# Altium schematic symbol library pcbLib.SchLib: 1 symbol
Pins are listed as number, name and electrical type; pins without a type are passive.

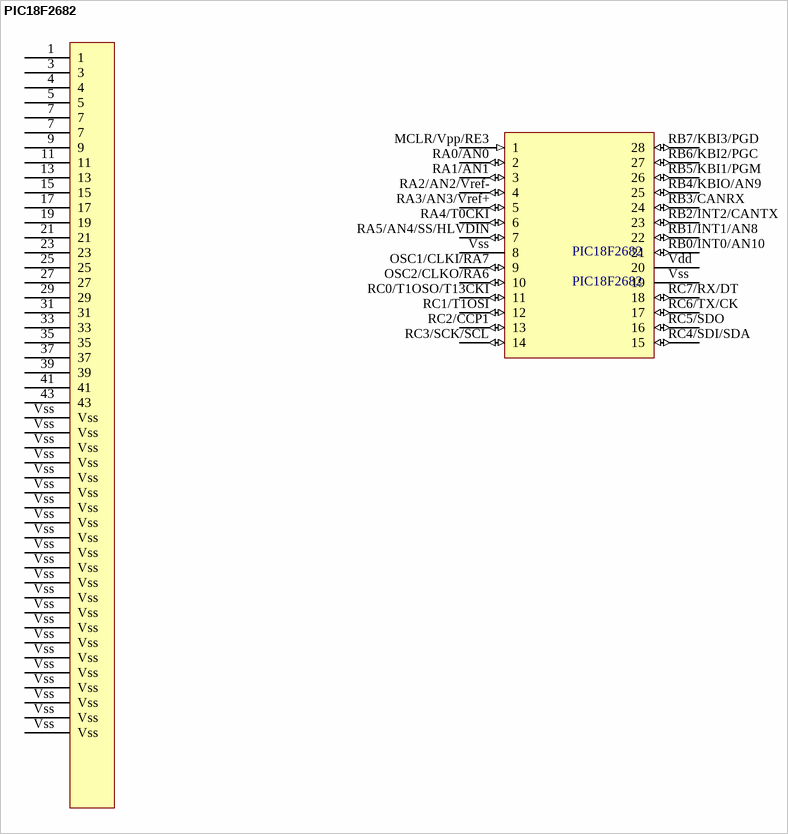
[diagram p0: symbol PIC18F2682]

## PIC18F2682
designator PIC18F2682
pins: 1, 3, 4, 5, 7, 7, 9, 11, 13, 15, 17, 19, 21, 23, 25, 27, 29, 31, 33, 35, 37, 39, 41, 43, MCLR/Vpp/RE3 1 (in), OSC1/CLKI/RA7 9 (io), OSC2/CLKO/RA6 10 (io), RA0/AN0 2 (io), RA1/AN1 3 (io), RA2/AN2/Vref- 4 (io), RA3/AN3/Vref+ 5 (io), RA4/T0CKI 6 (io), RA5/AN4/SS/HLVDIN 7 (io), RB0/INT0/AN10 21 (io), RB1/INT1/AN8 22 (io), RB2/INT2/CANTX 23 (io), RB3/CANRX 24 (io), RB4/KBIO/AN9 25 (io), RB5/KBI1/PGM 26 (io), RB6/KBI2/PGC 27 (io), RB7/KBI3/PGD 28 (io), RC0/T1OSO/T13CKI 11 (io), RC1/T1OSI 12 (io), RC2/CCP1 13 (io), RC3/SCK/SCL 14 (io), RC4/SDI/SDA 15 (io), RC5/SDO 16 (io), RC6/TX/CK 17 (io), RC7/RX/DT 18 (io), Vdd 20 (power), Vss 19 (power), Vss 8 (power), Vss, Vss, Vss, Vss, Vss, Vss, Vss, Vss, Vss, Vss, Vss, Vss, Vss, Vss, Vss, Vss, Vss, Vss, Vss, Vss, Vss, Vss